# Altium schematic symbol library KB-CMI126703D186.SchLib: 1 symbol
Pins are listed as number, name and electrical type; pins without a type are passive.

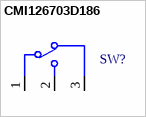
[diagram p0: symbol CMI126703D186]

## CMI126703D186
designator SW?
pins: 1 COM, 2 ON, 3 NC